# Altium footprint library IMX6PCBlib.PcbLib: 75 footprints (part 4 of 5)
Each footprint in its own frame and in the unit in brackets; x right, y up, seen from the top. Pads: shape width x height; smd on the part's side, far side on the other; paste and mask are expansions set on the pad; w line width, h text height; cw(c..) or ccw(c..) is an arc to the next point about the centre after c.
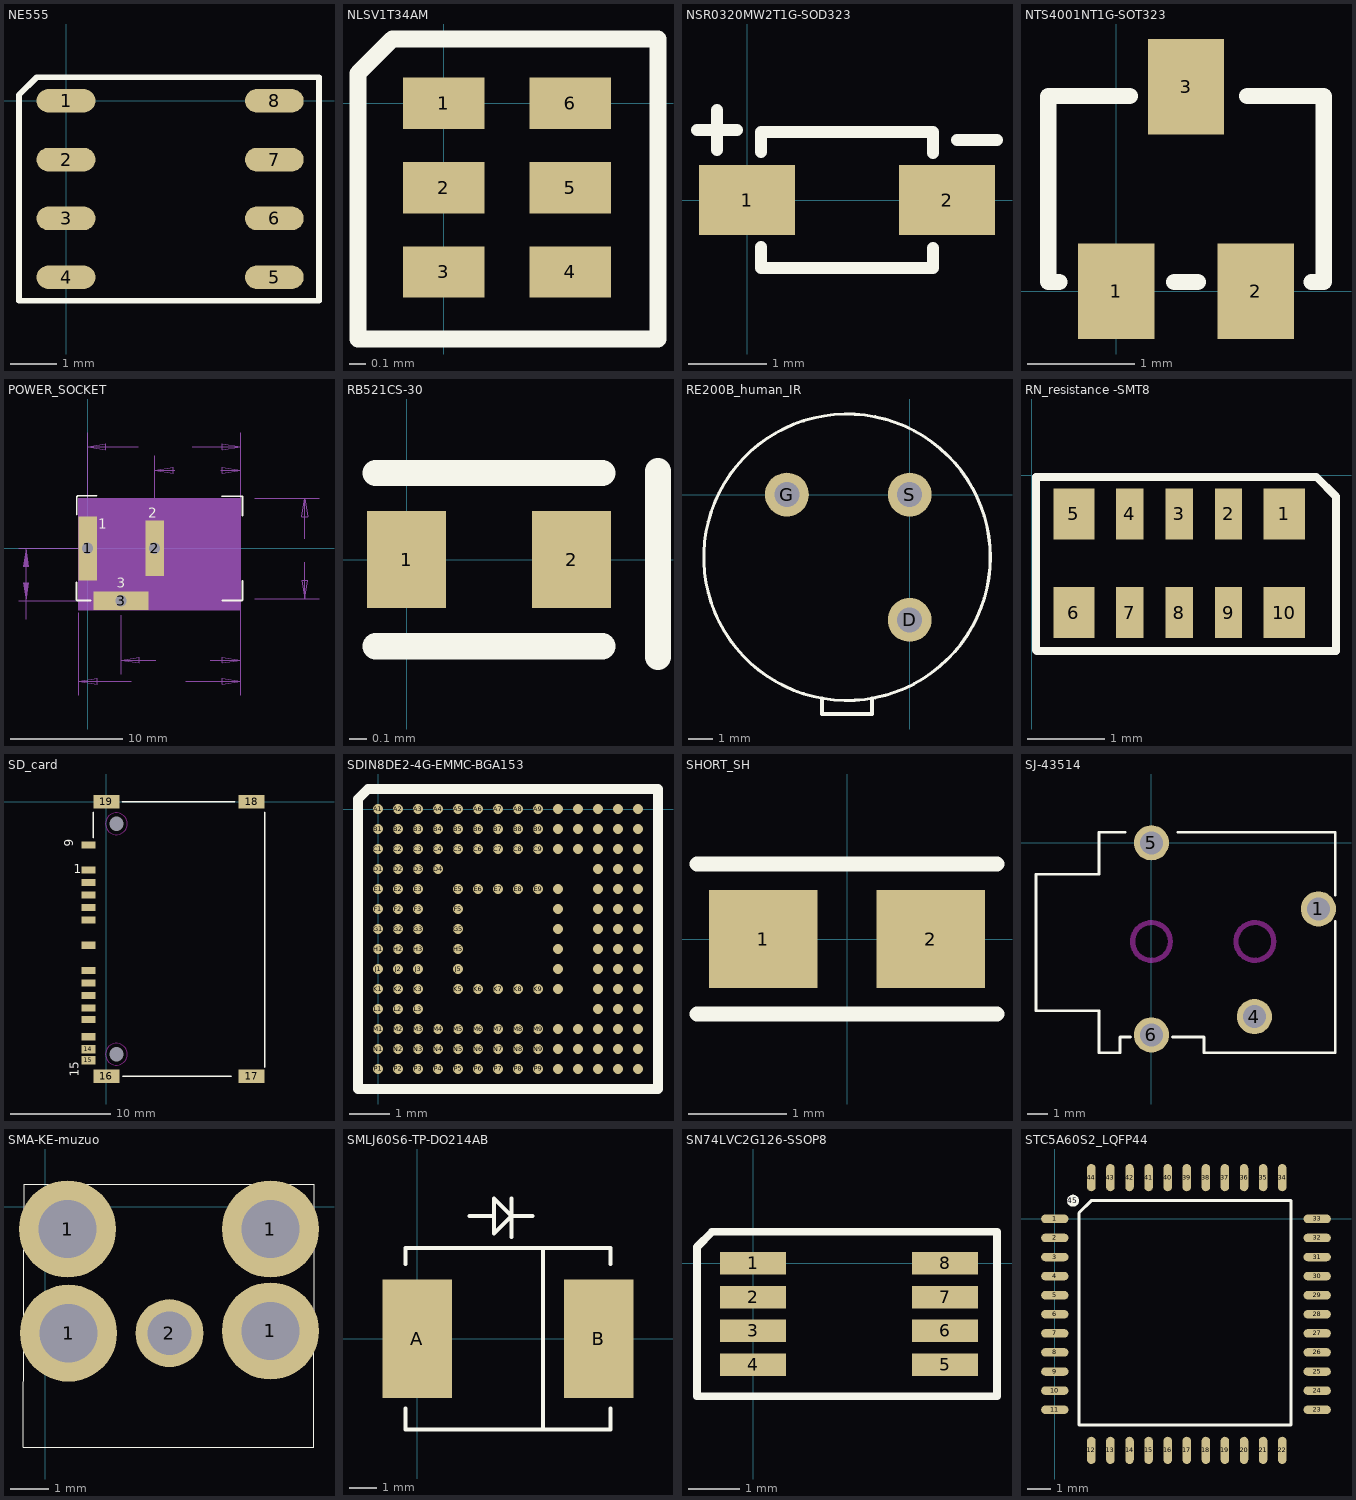
[diagram p3: the footprints below, top view; thin cyan lines are the x and y axes]

## NE555 [mil]
pads (8):
  oval 50x20 smd: 1(0,0) 2(0,-50) 3(0,-100) 4(0,-150) 5(177,-150) 6(177,-100) 7(177,-50) 8(177,0)
Top Overlay:
  lines w5: -40,-170 -40,5 -25,20 215,20 215,-170 -30,-170 -40,-170

## NLSV1T34AM [mil]
pads (6):
  rect 19x12 smd: 1(0,0) 2(0,-19.68) 3(0,-39.36) 4(29.52,-39.36) 5(29.52,-19.68) 6(29.52,0)
Top Overlay:
  lines w3.94: -20,-55 50,-55 50,15 -12,15 -20,7 -20,-55

## NSR0320MW2T1G-SOD323 [mil]
pads (2):
  rect 48x35 smd: 1(0,0) 2(100,0)
Top Overlay:
  lines w6: -25,35 -5,35 ; -15,25 -15,45 ; 7,-23.5 7,-34 93,-34 93,-24 ; 7,24 7,34 93,34 93,23.5 ; 105,30 125,30

## NTS4001NT1G-SOT323 [mil]
pads (3):
  rect 28x35 smd: 1(0,0) 2(51,0) 3(25.5,74.94)
Top Overlay:
  lines w6: -20.92,3.41 -25,3.47 -25,71.47 4.83,71.53 ; 21.13,3.41 29.83,3.41 ; 47.98,71.53 76,71.47 76,3.47 71.48,3.41

## POWER_SOCKET [mil]
pads (3):
  rect 65x226 hole 40: 1(-1,0)
  rect 65x195 hole 40: 2(235.22,0)
  rect 195x65 hole 40: 3(117.11,-185.04)
Top Overlay:
  lines w6: -40,-120 -40,-183 -39,-184 10,-184 ; -39,119 -39,182 -36,185 31,185 ; 473,184 544,184 545,183 545,115 ; 475,-184 544,-184 545,-183 545,-114
  text "1" at 36.5,68.33 h35
  text "2" at 213.5,108.33 h35
  text "3" at 102,-138 h35
Bottom Overlay:
  lines w6: -39.5,-121.65 -39.5,-184.17 10.02,-184.17 ; -39.5,119.69 -39.5,184.17 30.57,184.17 ; 475.31,-184.17 545.37,-184.17 545.37,-114.1 ; 475.31,184.17 545.37,184.17 545.37,114.1
  text "1" at -36,-19 h35
Mechanical 25:
  text "1" at 4.97,12.27 h10
  text "2" at 241.19,12.27 h10
  text "3" at 119.14,-172.77 h10
Mechanical 28:
  pour cut-out: -33.5,113 -27.85,113 267.72,113 267.72,-217.54 -33.5,-217.54
Mechanical 30:
  region: -33.68,177.17 538.37,177.17 538.37,-217.72 -33.68,-217.72
Mechanical 31:
  pour cut-out: -33.68,177.17 538.37,177.17 538.37,-217.72 -33.68,-217.72
Mechanical 32:
  pour cut-out: -207.54,-121.04 -217.54,-185.04 -227.54,-121.04
  pour cut-out: -227.54,-64 -217.54,0 -207.54,-64
  lines w1: -242.54,-185.04 92.11,-185.04 ; -242.54,0 -26,0 ; -217.54,-249.46 -217.54,-185.04 -217.54,0 ; -32.5,-518.5 -32.5,-227.17 ; -1,50 -1,408.27 ; 117.11,-443.7 117.11,-235.04 ; 153.25,-468.5 -32.5,-468.5 ; 176.87,358.27 -1,358.27 ; 235.22,50 235.22,325.59 ; 239.87,-393.7 117.11,-393.7 ; 305.55,275.59 235.22,275.59 ; 344.75,-468.5 538.37,-468.5 ; 368.37,358.27 538.37,358.27 ; 431.36,-393.7 538.37,-393.7 ; 468.04,275.59 538.37,275.59 ; 538.37,-518.5 538.37,-227.17 ; 538.37,-443.7 538.37,-50 ; 538.37,325.59 538.37,50 538.37,408.27 ; 588.37,-177.17 814.75,-177.17 ; 588.37,177.17 814.75,177.17 ; 764.75,-49.62 764.75,-177.17 ; 764.75,33.87 764.75,177.17 ; -32.5,-468.5 32.5,-478.5 32.5,-458.5 -32.5,-468.5 ; -1,358.27 64,348.27 64,368.27 -1,358.27 ; 117.11,-393.7 182.11,-403.7 182.11,-383.7 117.11,-393.7 ; 235.22,275.59 300.22,265.59 300.22,285.59 235.22,275.59 ; 538.37,-468.5 473.37,-458.5 473.37,-478.5 538.37,-468.5 ; 538.37,-393.7 473.37,-383.7 473.37,-403.7 538.37,-393.7 ; 538.37,275.59 473.37,285.59 473.37,265.59 538.37,275.59 ; 538.37,358.27 473.37,368.27 473.37,348.27 538.37,358.27 ; 764.75,-177.17 774.75,-112.17 754.75,-112.17 764.75,-177.17 ; 764.75,177.17 754.75,112.17 774.75,112.17 764.75,177.17 ; -32.5,-177.17 538.37,-177.17 538.37,177.17 -32.5,177.17 -32.5,-177.17
  text "PJ-202B" at 139.94,-538.19 h31
  text "R195X065-158X040T PINS 2,3" at -30.13,535.43 h31
  text "R226X065-178X040T PIN  1" at -30.13,476.77 h31
  text "1" at 0,-4.34 h10
  text "ALL DIMS IN MM" at -30.92,590.16 h31
  text "14.50" at 179.5,-453 h31
  text "9.00" at 709.75,7.63 h31
  text "10.70" at 266.11,-378.2 h31
  text "7.70" at 331.8,291.09 h31
  text "13.70" at 203.12,373.77 h31
  text "4.70" at -202.04,-275.71 h31

## RB521CS-30 [mil]
pads (2):
  rect 18x22 smd: 1(0,0) 2(37.4,0)
Top Overlay:
  lines w6: -6.97,-19.68 44.37,-19.68 ; -6.97,19.63 44.37,19.63 ; 57,-22 57,20

## RE200B_human_IR [mil]
pads (3):
  round 70 hole 40: D(0,-200) G(-196,0) S(0,0)
Top Overlay:
  circle w5: c-100,-100 r228.47
  lines w6: -140,-325 -140,-350 -60,-350 -60,-325

## RN_resistance -SMT8 [mil]
pads (10):
  rect 21x26 smd: 1(128.6,-19.8) 5(21.4,-19.8) 6(21.4,-70.2) 10(128.6,-70.2)
  rect 14x26 smd: 2(100.2,-19.8) 3(75,-19.8) 4(49.8,-19.8) 7(49.8,-70.2) 8(75,-70.2) 9(100.2,-70.2)
Top Overlay:
  lines w3.94: 2.05,-89.41 2.05,-0.98 145,-0.98 155,-10.98 155,-89.76 2.4,-89.76

## SD_card [mil]
pads (21):
  rect 55x28 smd: 1(-70.87,-267.52) 2(-70.87,-365.95) 3(-70.87,-464.37) 4(-70.87,-563.19) 5(-70.87,-661.62) 6(-70.87,-760.04) 7(-70.87,-855.32) 8(-70.87,-922.25) 9(-70.87,-169.1) 10(-70.87,-316.74) 11(-70.87,-415.16) 12(-70.87,-710.83) 13(-70.87,-809.26)
  rect 55x32 smd: 14(-70.87,-971.46) 15(-70.87,-1014.77)
  rect 102x53 smd: 16(0,-1076.78) 17(570.86,-1076.78) 18(570.86,0) 19(0,0)
  round 10 hole 56: " "(39.37,-991.15) " "(39.37,-85.63)
Top Overlay:
  lines w5.98: -51.18,-139.57 -51.18,-40.75 ; 61.81,0.39 504.72,0.39 ; 63.78,-1076.78 491.06,-1076.79 ; 622.04,-1042.33 622.04,-39.57
  text "1" at -128.57,-279.39 h35
  text "9" at -129.9,-175.89 h35
  text "15" at -107.57,-1079.39 h35
Multi-Layer keep-out:
  circle w1: c39.37,-85.63 r42.95
  circle w1: c39.37,-991.15 r42.95

## SDIN8DE2-4G-EMMC-BGA153 [mil]
pads (153):
  round 10 smd: A1(0,0) A2(19.68,0) A3(39.37,0) A4(59.05,0) A5(78.74,0) A6(98.42,0) A7(118.11,0) A8(137.79,0) A9(157.48,0) A10(177.16,0) A11(196.85,0) A12(216.53,0) A13(236.22,0) A14(255.91,0) B1(0,-19.68) B2(19.68,-19.68) B3(39.37,-19.68) B4(59.05,-19.68) B5(78.74,-19.68) B6(98.42,-19.68) B7(118.11,-19.68) B8(137.79,-19.68) B9(157.48,-19.68) B10(177.16,-19.68) B11(196.85,-19.68) B12(216.53,-19.68) B13(236.22,-19.68) B14(255.91,-19.68) C1(0,-39.37) C2(19.68,-39.37) C3(39.37,-39.37) C4(59.05,-39.37) C5(78.74,-39.37) C6(98.42,-39.37) C7(118.11,-39.37) C8(137.79,-39.37) C9(157.48,-39.37) C10(177.16,-39.37) C11(196.85,-39.37) C12(216.53,-39.37) C13(236.22,-39.37) C14(255.91,-39.37) D1(0,-59.05) D2(19.68,-59.05) D3(39.37,-59.05) D4(59.05,-59.05) D12(216.53,-59.05) D13(236.22,-59.05) D14(255.91,-59.05) E1(0,-78.74) E2(19.68,-78.74) E3(39.37,-78.74) E5(78.74,-78.74) E6(98.42,-78.74) E7(118.11,-78.74) E8(137.79,-78.74) E9(157.48,-78.74) E10(177.16,-78.74) E12(216.53,-78.74) E13(236.22,-78.74) E14(255.91,-78.74) F1(0,-98.42) F2(19.68,-98.42) F3(39.37,-98.42) F5(78.74,-98.42) F10(177.16,-98.42) F12(216.53,-98.42) F13(236.22,-98.42) F14(255.91,-98.42) G1(0,-118.11) G2(19.68,-118.11) G3(39.37,-118.11) G5(78.74,-118.11) G10(177.16,-118.11) G12(216.53,-118.11) G13(236.22,-118.11) G14(255.91,-118.11) H1(0,-137.79) H2(19.68,-137.79) H3(39.37,-137.79) H5(78.74,-137.79) H10(177.16,-137.79) H12(216.53,-137.79) H13(236.22,-137.79) H14(255.91,-137.79) J1(0,-157.48) J2(19.68,-157.48) J3(39.37,-157.48) J5(78.74,-157.48) J10(177.16,-157.48) J12(216.53,-157.48) J13(236.22,-157.48) J14(255.91,-157.48) K1(0,-177.16) K2(19.68,-177.16) K3(39.37,-177.16) K5(78.74,-177.16) K6(98.42,-177.16) K7(118.11,-177.16) K8(137.79,-177.16) K9(157.48,-177.16) K10(177.16,-177.16) K12(216.53,-177.16) K13(236.22,-177.16) K14(255.91,-177.16) L1(0,-196.85) L2(19.68,-196.85) L3(39.37,-196.85) L12(216.53,-196.85) L13(236.22,-196.85) L14(255.91,-196.85) M1(0,-216.53) M2(19.68,-216.53) M3(39.37,-216.53) M4(59.05,-216.53) M5(78.74,-216.53) M6(98.42,-216.53) M7(118.11,-216.53) M8(137.79,-216.53) M9(157.48,-216.53) M10(177.16,-216.53) M11(196.85,-216.53) M12(216.53,-216.53) M13(236.22,-216.53) M14(255.91,-216.53) N1(0,-236.22) N2(19.68,-236.22) N3(39.37,-236.22) N4(59.05,-236.22) N5(78.74,-236.22) N6(98.42,-236.22) N7(118.11,-236.22) N8(137.79,-236.22) N9(157.48,-236.22) N10(177.16,-236.22) N11(196.85,-236.22) N12(216.53,-236.22) N13(236.22,-236.22) N14(255.91,-236.22) P1(0,-255.91) P2(19.68,-255.91) P3(39.37,-255.91) P4(59.05,-255.91) P5(78.74,-255.91) P6(98.42,-255.91) P7(118.11,-255.91) P8(137.79,-255.91) P9(157.48,-255.91) P10(177.16,-255.91) P11(196.85,-255.91) P12(216.53,-255.91) P13(236.22,-255.91) P14(255.91,-255.91)
Top Overlay:
  lines w10: -19.68,-275.59 275.59,-275.59 275.59,19.68 -9.84,19.68 -19.68,9.84 -19.68,-275.59

## SHORT_SH [mm]
pads (2):
  rect 1.1x1 smd: 1(-0.85,0) 2(0.85,0)
Top Overlay:
  lines w0.152: -1.524,-0.762 1.524,-0.762 ; -1.524,0.762 1.524,0.762

## SJ-43514 [mil]
pads (4):
  round 67 hole 44: 1(318,-126) 4(196,-331) 5(0,0) 6(0,-366)
Top Overlay:
  lines w5: -50,20 -100,20 -100,-60 -220,-60 -220,-300 -220,-320 -100,-320 -100,-400 -60,-400 -60,-370 -40,-370 ; 40,-370 100,-370 100,-400 350,-400 350,-150 ; 50,20 350,20 350,-100
Keep-Out Layer:
  circle w10: c0,-188 r36
  circle w10: c197,-188 r36

## SMA-KE-muzuo [mil]
pads (5):
  round 100 hole 60: 1(23,-23) 1(24,-130.2) 1(232,-128.01) 1(232,-23)
  round 70 hole 45: 2(128,-130.31)
Top Overlay:
  lines w1: -22.63,-248 276.35,-248 277.35,23.27 -21.63,23.27 -22.63,-248

## SMLJ60S6-TP-DO214AB [mil]
pads (2):
  rect 100x170 smd: A(0,0) B(260,0)
Top Overlay:
  lines w6: -17,-100 -17,-130 277,-130 277,-100 ; -17,107 -17,130 277,130 277,107 ; 75,176 110,176 ; 135,146 135,201 ; 165,176 135,176 ; 180,-130 180,127 ; 135,176 110,201 110,151 135,176

## SN74LVC2G126-SSOP8 [mil]
pads (8):
  rect 50x17 smd: 1(0,0) 2(0,-25.59) 3(0,-51.19) 4(0,-76.78) 5(145.66,-76.78) 6(145.66,-51.19) 7(145.66,-25.59) 8(145.66,0)
Top Overlay:
  lines w6: -42.5,-100.79 -42.5,12.5 -30.99,24.01 15.74,24.01 129.92,24.01 185,24.01 185,-100.79 15.74,-100.79 -42.5,-100.79

## STC5A60S2_LQFP44 [mil]
pads (45):
  oval 45x14 smd: 1(0,0) 2(0,-31.49) 3(0,-62.98) 4(0,-94.47) 5(0,-125.96) 6(0,-157.45) 7(0,-188.94) 8(0,-220.43) 9(0,-251.92) 10(0,-283.41) 11(0,-314.9) 23(433,-314.9) 24(433,-283.41) 25(433,-251.92) 26(433,-220.43) 27(433,-188.94) 28(433,-157.45) 29(433,-125.96) 30(433,-94.47) 31(433,-62.98) 32(433,-31.49) 33(433,0)
  oval 14x45 smd: 12(60.33,-382) 13(91.82,-382) 14(123.31,-382) 15(154.8,-382) 16(186.29,-382) 17(217.78,-382) 18(249.27,-382) 19(280.76,-382) 20(312.25,-382) 21(343.74,-382) 22(375.23,-382) 34(375.23,68) 35(343.74,68) 36(312.25,68) 37(280.76,68) 38(249.27,68) 39(217.78,68) 40(186.29,68) 41(154.8,68) 42(123.31,68) 43(91.82,68) 44(60.33,68)
  round 20 on Top Overlay: 45(30,30)
Top Overlay:
  lines w5: 40,-340 50,-340 390,-340 390,30 60,30 40,10 40,-340